# Altium schematic symbol library 53048-0410.SchLib: 1 symbol
Pins are listed as number, name and electrical type; pins without a type are passive.

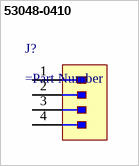
[diagram p0: symbol 53048-0410]

## 53048-0410
designator J?
=Description
pins: 1, 2, 3, 4